# Altium schematic symbol library OPA990IDBVR.Schlib: 1 symbol
Pins are listed as number, name and electrical type; pins without a type are passive.

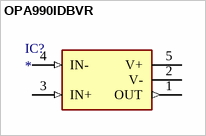
[diagram p0: symbol OPA990IDBVR]

## OPA990IDBVR
designator IC?
Integrated Circuit
pins: 1 OUT (out), 2 V- (power), 3 IN+ (in), 4 IN- (in), 5 V+ (power)